# Altium schematic symbol library LED 0805 Red.Schlib: 1 symbol
Pins are listed as number, name and electrical type; pins without a type are passive.

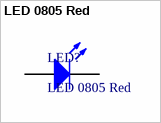
[diagram p0: symbol LED 0805 Red]

## LED 0805 Red
designator LED?
SMD-0805 High Bright Red Chip LED
pins: 1 K, 2 A